# EAGLE library part T1_L4A_8290C (library STEMTera)
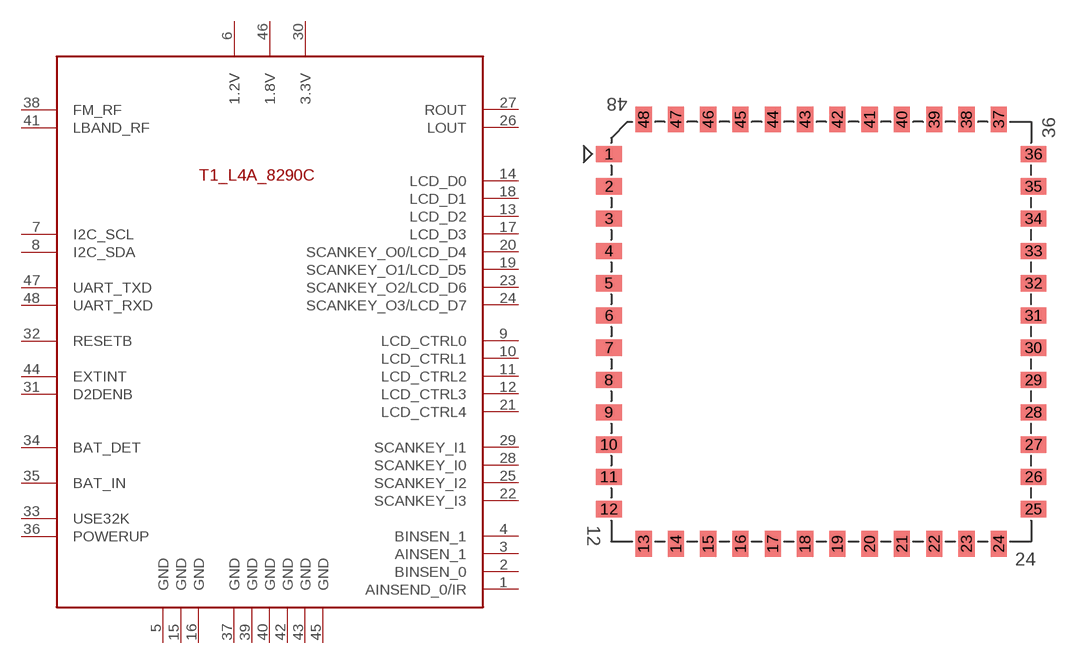
[diagram p5: symbol with the pads of T1_L4A; footprint T1_L4A]

Designator prefix -

## T1_L4A_8290C  [T1_L4A]
1  AINSEND_0/IR
2  BINSEN_0
3  AINSEN_1
4  BINSEN_1
5  GND
6  1.2V
7  I2C_SCL
8  I2C_SDA
9  LCD_CTRL0
10  LCD_CTRL1
11  LCD_CTRL2
12  LCD_CTRL3
13  LCD_D2
14  LCD_D0
15  GND
16  GND
17  LCD_D3
18  LCD_D1
19  SCANKEY_O1/LCD_D5
20  SCANKEY_O0/LCD_D4
21  LCD_CTRL4
22  SCANKEY_I3
23  SCANKEY_O2/LCD_D6
24  SCANKEY_O3/LCD_D7
25  SCANKEY_I2
26  LOUT
27  ROUT
28  SCANKEY_I0
29  SCANKEY_I1
30  3.3V
31  D2DENB
32  RESETB
33  USE32K
34  BAT_DET
35  BAT_IN
36  POWERUP
37  GND
38  FM_RF
39  GND
40  GND
41  LBAND_RF
42  GND
43  GND
44  EXTINT
45  GND
46  1.8V
47  UART_TXD
48  UART_RXD

## Footprint T1_L4A (pad centres in mm)
smd 1.6 x 1: 1 -0.15,0; 2 -0.15,-2; 3 -0.15,-4; 4 -0.15,-6; 5 -0.15,-8; 6 -0.15,-10; 7 -0.15,-12; 8 -0.15,-14; 9 -0.15,-16; 10 -0.15,-18; 11 -0.15,-20; 12 -0.15,-22; 25 26.15,-22; 26 26.15,-20; 27 26.15,-18; 28 26.15,-16; 29 26.15,-14; 30 26.15,-12; 31 26.15,-10; 32 26.15,-8; 33 26.15,-6; 34 26.15,-4; 35 26.15,-2; 36 26.15,0
smd 1 x 1.6: 13 2,-24.15; 14 4,-24.15; 15 6,-24.15; 16 8,-24.15; 17 10,-24.15; 18 12,-24.15; 19 14,-24.15; 20 16,-24.15; 21 18,-24.15; 22 20,-24.15; 23 22,-24.15; 24 24,-24.15; 37 24,2.15; 38 22,2.15; 39 20,2.15; 40 18,2.15; 41 16,2.15; 42 14,2.15; 43 12,2.15; 44 10,2.15; 45 8,2.15; 46 6,2.15; 47 4,2.15; 48 2,2.15